# Altium footprint library PcbLib4.PcbLib: 1 footprints
Each footprint in its own frame and in the unit in brackets; x right, y up, seen from the top. Pads: shape width x height; smd on the part's side, far side on the other; paste and mask are expansions set on the pad; w line width, h text height; cw(c..) or ccw(c..) is an arc to the next point about the centre after c.
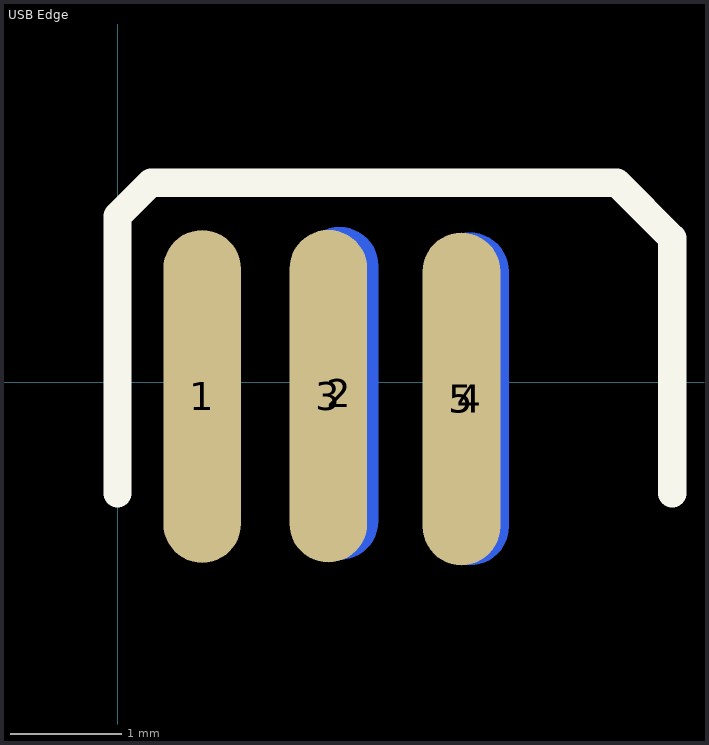
[diagram p0: the footprint, top view; thin cyan lines are the x and y axes]

## USB Edge [mm]
pads (5):
  oval 0.7x3 smd: 1(0.762,-0.127) 3(1.9,-0.125) 5(3.1,-0.15)
  oval 0.7x3 smd far side: 2(2,-0.1) 4(3.175,-0.15)
Top Overlay:
  lines w0.254: 0,-1 0,1.5 0.3,1.8 4.5,1.8 5,1.3 5,-1